# Altium footprint library MC_FIDUCIAL.PcbLib: 1 footprints
Each footprint in its own frame and in the unit in brackets; x right, y up, seen from the top. Pads: shape width x height; smd on the part's side, far side on the other; paste and mask are expansions set on the pad; w line width, h text height; cw(c..) or ccw(c..) is an arc to the next point about the centre after c.
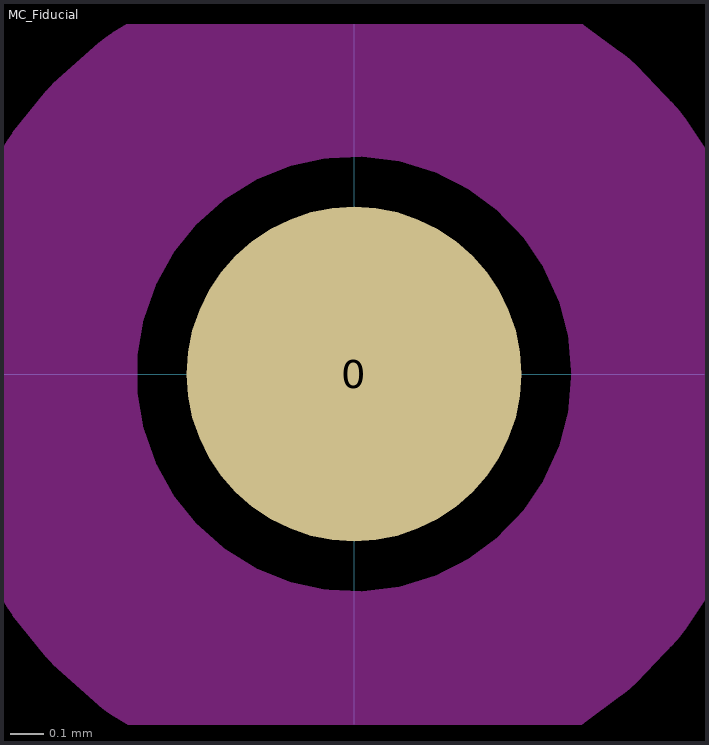
[diagram p0: the footprint, top view; thin cyan lines are the x and y axes]

## MC_Fiducial [mil] "Fiducial"
pads (1):
  round 40 smd paste-3937.01 mask+31.5: 0(0,0)
Top Layer keep-out:
  circle w24: c0,0 r38